# EAGLE library part WE-LPF_0805 (library WE-LPF)
WE-LPF Multilayer Chip Low-Pass Filter Characteristics Operating temperature: –40 °C to +85 °C Power capacity up to 3 W Low insertion loss and high attenuation in the stop-band Applications RF applications Wireless communication systems like DECT, PACS, PHS, GSM, WLAN, Bluetooth … <https://katalog.we-online.com/media/images/v2/o14805v209%20Family_WE-LPF_WE-BPF.jpg> Details see: https://katalog.we-online.com/en/pbs/WE-LPF Updated by Ella Wu 2019-08-19 2019 (C) Wurth Elektronik
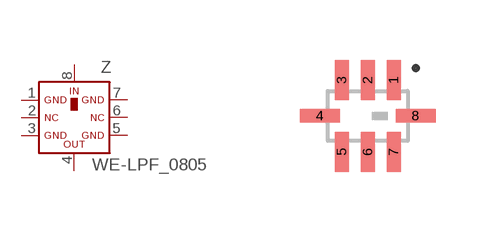
[diagram p1: symbol with the pads of WE-LPF_0805; footprint WE-LPF_0805]

Designator prefix Z

## WE-LPF_0805_748111009 (DATASHEET-URL: https://katalog.we-online.com/pbs/datasheet/748111009.pdf; MOUNT: SMT; PART-NUMBER: 748111009; PEAK-GAIN: 0.5dB; VALUE: 4900-5920 MHz; VSWR: 1.5), WE-LPF_0805_748121055 (DATASHEET-URL: https://katalog.we-online.com/pbs/datasheet/748121055.pdf; MOUNT: SMT; PART-NUMBER: 748121055; PEAK-GAIN: 0.6dB; VALUE: 5150-5875 MHz; VSWR: 1.8), WE-LPF_0805_748125024 (DATASHEET-URL: https://katalog.we-online.com/pbs/datasheet/748125024.pdf; MOUNT: SMT; PART-NUMBER: 748125024; PEAK-GAIN: 0.5dB; VALUE: 2400-2500 MHz; VSWR: 1.8)  [WE-LPF_0805]
1  1  pwr
2  2  nc
3  3  pwr
4  4  out
5  5  pwr
6  6  nc
7  7  pwr
8  8  in

## Footprint WE-LPF_0805 (pad centres in mm)
WE-LPF Multilayer Chip Low-Pass Filter Size: 0805
smd 0.35 x 1: 1 0.65,0.9; 2 0,0.9; 3 -0.65,0.9; 5 -0.65,-0.9; 6 0,-0.9; 7 0.65,-0.9
smd 1 x 0.35: 4 -1.2,0; 8 1.2,0